# EAGLE library part STM32F10XTXU6 (library stm32)
STM32F101/103 36pad VFQPFN36
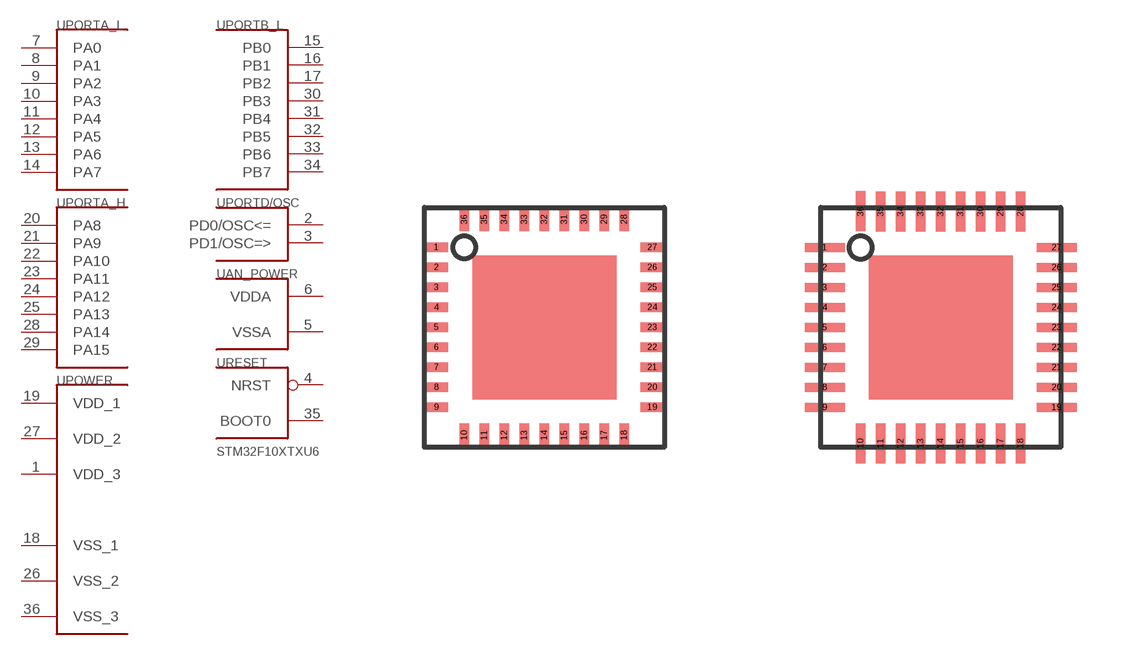
[diagram p0: symbol with the pads of VFQFPN36; footprints VFQFPN36, VFQFPN36-HS]

Designator prefix U; gates PORTA_L=PORT_A_L PORTA_H=PORT_A_H PORTB_L=PORT_B_L POWER=VCC_VDD_S PORTD/OSC=PORT_D_2 AN_POWER=BAT_AN_S RESET=BOOT_RST

## STM32F10XTXU6  [VFQFPN36]
1  POWER:VDD_3  pwr
2  PORTD/OSC:PD0/OSC<=
3  PORTD/OSC:PD1/OSC=>
4  RESET:NRST  in
5  AN_POWER:VSSA  pwr
6  AN_POWER:VDDA  pwr
7  PORTA_L:PA0
8  PORTA_L:PA1
9  PORTA_L:PA2
10  PORTA_L:PA3
11  PORTA_L:PA4
12  PORTA_L:PA5
13  PORTA_L:PA6
14  PORTA_L:PA7
15  PORTB_L:PB0
16  PORTB_L:PB1
17  PORTB_L:PB2
18  POWER:VSS_1  pwr
19  POWER:VDD_1  pwr
20  PORTA_H:PA8
21  PORTA_H:PA9
22  PORTA_H:PA10
23  PORTA_H:PA11
24  PORTA_H:PA12
25  PORTA_H:PA13
26  POWER:VSS_2  pwr
27  POWER:VDD_2  pwr
28  PORTA_H:PA14
29  PORTA_H:PA15
30  PORTB_L:PB3
31  PORTB_L:PB4
32  PORTB_L:PB5
33  PORTB_L:PB6
34  PORTB_L:PB7
35  RESET:BOOT0  in
36  POWER:VSS_3  pwr

## STM32F10XTXU6HS  [VFQFPN36-HS]
Pads as for VFQFPN36

## Footprint VFQFPN36 (pad centres in mm)
36 contact QFN 0.5mm pin space
smd 0.6 x 0.23: 1 -2.7,2; 2 -2.7,1.5; 3 -2.7,1; 4 -2.7,0.5; 5 -2.7,0; 6 -2.7,-0.5; 7 -2.7,-1; 8 -2.7,-1.5; 9 -2.7,-2; 19 2.7,-2; 20 2.7,-1.5; 21 2.7,-1; 22 2.7,-0.5; 23 2.7,0; 24 2.7,0.5; 25 2.7,1; 26 2.7,1.5; 27 2.7,2
smd 0.23 x 0.6: 10 -2,-2.7; 11 -1.5,-2.7; 12 -1,-2.7; 13 -0.5,-2.7; 14 0,-2.7; 15 0.5,-2.7; 16 1,-2.7; 17 1.5,-2.7; 18 2,-2.7; 28 2,2.7; 29 1.5,2.7; 30 1,2.7; 31 0.5,2.7; 32 0,2.7; 33 -0.5,2.7; 34 -1,2.7; 35 -1.5,2.7; 36 -2,2.7

## Footprint VFQFPN36-HS (pad centres in mm)
VFQFPN36 with 0.3mm extended tracks to aid hand soldering.
smd 1 x 0.23: 1 -2.9,2; 2 -2.9,1.5; 3 -2.9,1; 4 -2.9,0.5; 5 -2.9,0; 6 -2.9,-0.5; 7 -2.9,-1; 8 -2.9,-1.5; 9 -2.9,-2; 19 2.9,-2; 20 2.9,-1.5; 21 2.9,-1; 22 2.9,-0.5; 23 2.9,0; 24 2.9,0.5; 25 2.9,1; 26 2.9,1.5; 27 2.9,2
smd 0.23 x 1: 10 -2,-2.9; 11 -1.5,-2.9; 12 -1,-2.9; 13 -0.5,-2.9; 14 0,-2.9; 15 0.5,-2.9; 16 1,-2.9; 17 1.5,-2.9; 18 2,-2.9; 28 2,2.9; 29 1.5,2.9; 30 1,2.9; 31 0.5,2.9; 32 0,2.9; 33 -0.5,2.9; 34 -1,2.9; 35 -1.5,2.9; 36 -2,2.905